# EAGLE library part IDTQS3VH257 (library sjg-logic)
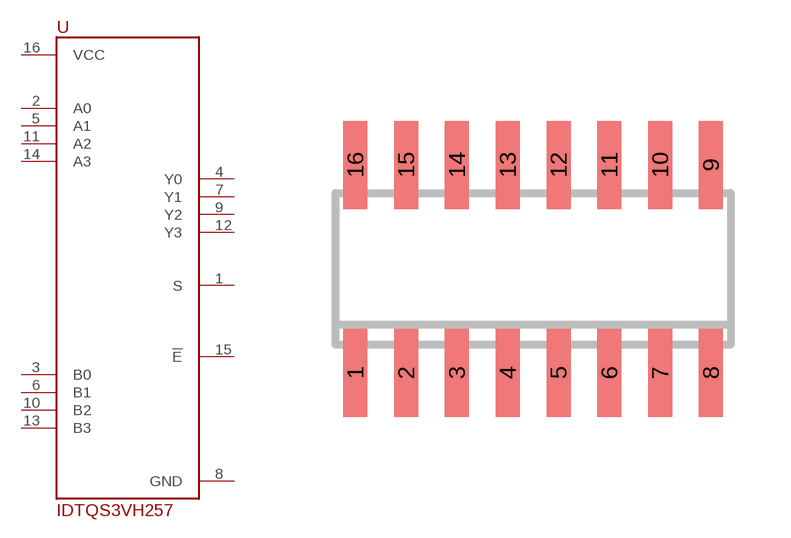
[diagram p7: symbol with the pads of SO16; footprint SO16]

Designator prefix -

## IDTQS3VH257  [SO16]
1  S
2  A0
3  B0
4  Y0
5  A1
6  B1
7  Y1
8  GND
9  Y2
10  B2
11  A2
12  Y3
13  B3
14  A3
15  !E!
16  VCC

## Footprint SO16 (pad centres in mm)
SMALL OUTLINE INTEGRATED CIRCUIT body 3.9 mm/JEDEC MS-012AC
smd 0.6 x 2.2: 1 -4.445,-2.6; 2 -3.175,-2.6; 3 -1.905,-2.6; 4 -0.635,-2.6; 5 0.635,-2.6; 6 1.905,-2.6; 7 3.175,-2.6; 8 4.445,-2.6; 9 4.445,2.6; 10 3.175,2.6; 11 1.905,2.6; 12 0.635,2.6; 13 -0.635,2.6; 14 -1.905,2.6; 15 -3.175,2.6; 16 -4.445,2.6